# EAGLE library part 749119933 (library WE-POE)
WE-PoE Power over Ethernet Transformer Characteristics Flyback transformer designed for PoE PDs Input voltage: 36 V to 57 V Switching frequencies: 200–500 kHz Operating temperature: –40 ºC to +125 ºC Isolation voltage: 1.5 kVAC/1 min Different output powers and voltages available Applications PoE powered devices IP Phones WLAN Access Points Access control terminals Security cameras <https://www.we-online.com/components/media/o766301v209%20Family-POE.jpg> Details see: www.we-online.com/en/components/products/WE-POE <www.we-online.com/catalog/WE-POE/?utm_source=eagle_model&utm_medium=description_link&utm_campaign=eisos_eagle> Updated by Ella 2024-01-09 2024 (C) Wurth Elektronik
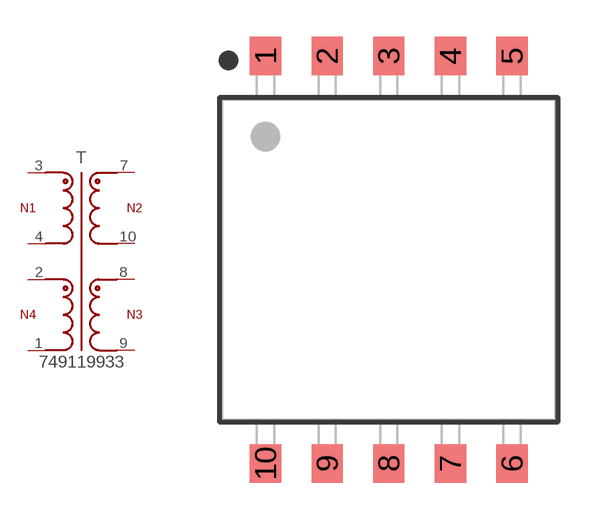
[diagram p26: symbol with the pads of WE-POE_EP13_L13.46W13H12.7; footprint WE-POE_EP13_L13.46W13H12.7]

Designator prefix T

## 749119933 (DATASHEET-URL: https://www.we-online.com/redexpert/spec/749119933?ae; IO1: 2A; IO2: 2A; L: 127uH; MOUNT: SMT; N: 6:1:1:3; PART-NUMBER: 749119933; SIZE: EP13; VALUE: 749119933; VERSION: Flyback; VIN: 36 - 57 V (DC); VO1: 3.3V; VO2: 3.3V; VT: 1500V(AC))  [WE-POE_EP13_L13.46W13H12.7]
1  1  pas
2  2  pas
3  3  pas
4  4  pas
7  7  pas
8  8  pas
9  9  pas
10  10  pas

## Footprint WE-POE_EP13_L13.46W13H12.7 (pad centres in mm)
WE-PoE Power over Ethernet Transformer EP13, SMT, 10Pins
smd 1.27 x 1.55: 1 -5,8.275; 2 -2.5,8.275; 3 0,8.275; 4 2.5,8.275; 5 5,8.275; 6 5,-8.275; 7 2.5,-8.275; 8 0,-8.275; 9 -2.5,-8.275; 10 -5,-8.275